# Altium schematic symbol library DMG1012T-7.SchLib: 1 symbol
Pins are listed as number, name and electrical type; pins without a type are passive.

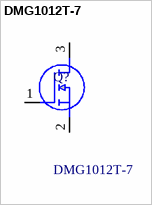
[diagram p0: symbol DMG1012T-7]

## DMG1012T-7
designator Q?
MOSFET N-Channel 20V 0.63A SOT523 Diodes Inc DMG1012T-7 N-channel MOSFET Transistor, 0.63 A, 20 V, 3-Pin SOT-523; Manufacturer_Name: Diodes Incorporated; Geometry.Height: 0.9mm; Mouser Part Number: 621-DMG1012T-7; Mouser Price/Stock: https://www.mouser.co.uk/ProductDetail/Diodes-Incorporated/DMG1012T-7?qs=vIZ3oKQCLxoEnfyeB0HcGQ%3D%3D; Manufacturer_Part_Number: DMG1012T-7; Datasheet Link: https://www.diodes.com//assets/Datasheets/DMG1012T.pdf
footprint SOT50P160X90-3N
pins: 1 G, 2 S, 3 D